# EAGLE library part QUECTEL_M95 (library GSM)
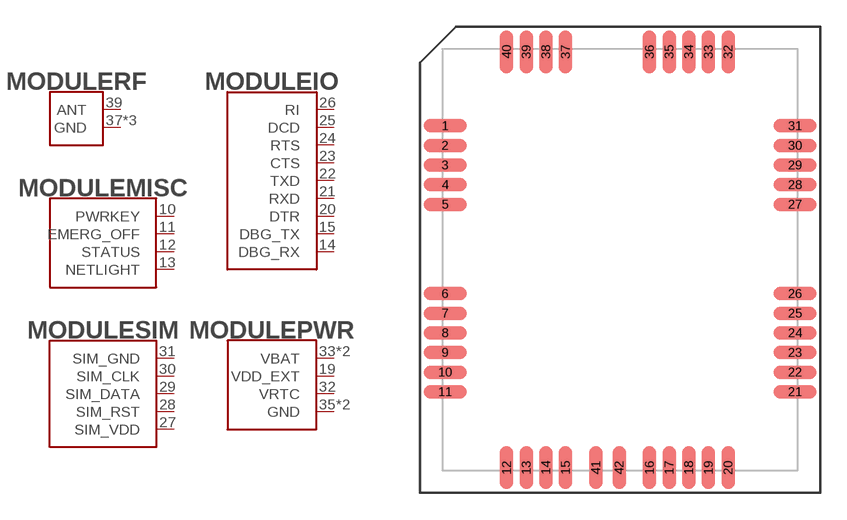
[diagram p2: symbol with the pads of QUECTEL_M95; footprint QUECTEL_M95]

Designator prefix MODULE; gates IO=M95_IO PWR=M95_PWR RF=M95_RF SIM=M95_SIM MISC=M95_MISC

## QUECTEL_M95  [QUECTEL_M95]
10  MISC:PWRKEY
11  MISC:EMERG_OFF
12  MISC:STATUS
13  MISC:NETLIGHT
14  IO:DBG_RX
15  IO:DBG_TX
19  PWR:VDD_EXT
20  IO:DTR
21  IO:RXD
22  IO:TXD
23  IO:CTS
24  IO:RTS
25  IO:DCD
26  IO:RI
27  SIM:SIM_VDD
28  SIM:SIM_RST
29  SIM:SIM_DATA
30  SIM:SIM_CLK
31  SIM:SIM_GND
32  PWR:VRTC
33  PWR:VBAT
34  PWR:VBAT
35  PWR:GND
36  PWR:GND
37  RF:GND
38  RF:GND
39  RF:ANT
40  RF:GND

## Footprint QUECTEL_M95 (pad centres in mm)
smd 2.4 x 0.75: 1 -9.8,7.5; 2 -9.8,6.4; 3 -9.8,5.3; 4 -9.8,4.2; 5 -9.8,3.1; 6 -9.8,-1.9; 7 -9.8,-3; 8 -9.8,-4.1; 9 -9.8,-5.2; 10 -9.8,-6.3; 11 -9.8,-7.4; 21 9.8,-7.4; 22 9.8,-6.3; 23 9.8,-5.2; 24 9.8,-4.1; 25 9.8,-3; 26 9.8,-1.9; 27 9.8,3.1; 28 9.8,4.2; 29 9.8,5.3; 30 9.8,6.4; 31 9.8,7.5
smd 0.75 x 2.4: 12 -6.35,-11.65; 13 -5.25,-11.65; 14 -4.15,-11.65; 15 -3.05,-11.65; 16 1.65,-11.65; 17 2.75,-11.65; 18 3.85,-11.65; 19 4.95,-11.65; 20 6.05,-11.65; 32 6.05,11.65; 33 4.95,11.65; 34 3.85,11.65; 35 2.75,11.65; 36 1.65,11.65; 37 -3.05,11.65; 38 -4.15,11.65; 39 -5.25,11.65; 40 -6.35,11.65; 41 -1.35,-11.65; 42 -0.05,-11.65